# Altium footprint library PL140113L.PcbLib: 1 footprints
Each footprint in its own frame and in the unit in brackets; x right, y up, seen from the top. Pads: shape width x height; smd on the part's side, far side on the other; paste and mask are expansions set on the pad; w line width, h text height; cw(c..) or ccw(c..) is an arc to the next point about the centre after c.
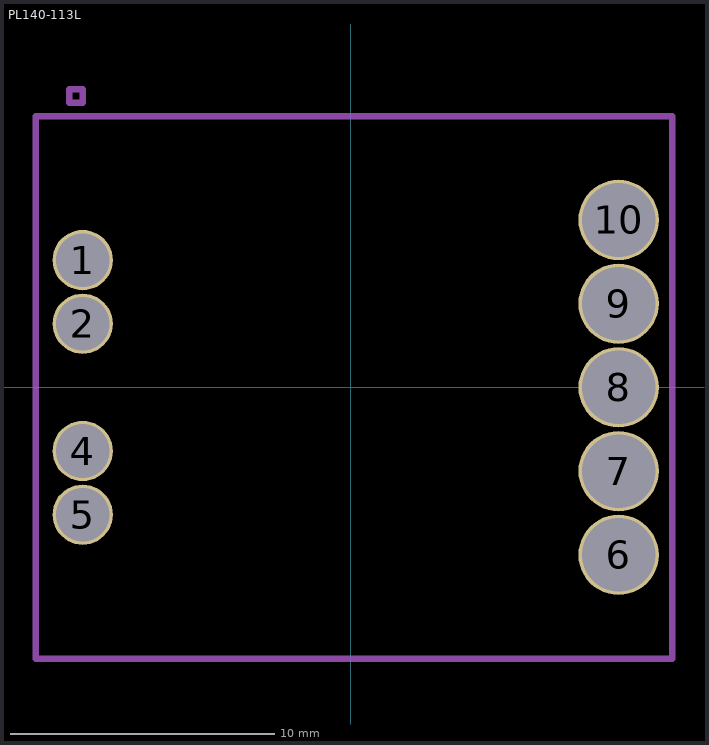
[diagram p0: the footprint, top view; thin cyan lines are the x and y axes]

## PL140-113L [mil] "PL140-113L"
height 360
pads (9):
  round 90 hole 80: 1(-400,190) 2(-400,95) 4(-400,-95) 5(-400,-190)
  round 120 hole 110: 6(400,-250) 7(400,-125) 8(400,0) 9(400,125) 10(400,250)
Mechanical 1:
  lines w10: 480,-404.92 480,404.92 ; 480,-385 480,-405 -470,-405 -470,405 480,405 480,330 ; -420,425 -420,445 -400,445 -400,425 -420,425
3D body: height 360, standoff 0, extent -470,-405 480,405